# Altium footprint library myLIB.PcbLib: 150 footprints (part 10 of 10)
Each footprint in its own frame and in the unit in brackets; x right, y up, seen from the top. Pads: shape width x height; smd on the part's side, far side on the other; paste and mask are expansions set on the pad; w line width, h text height; cw(c..) or ccw(c..) is an arc to the next point about the centre after c.
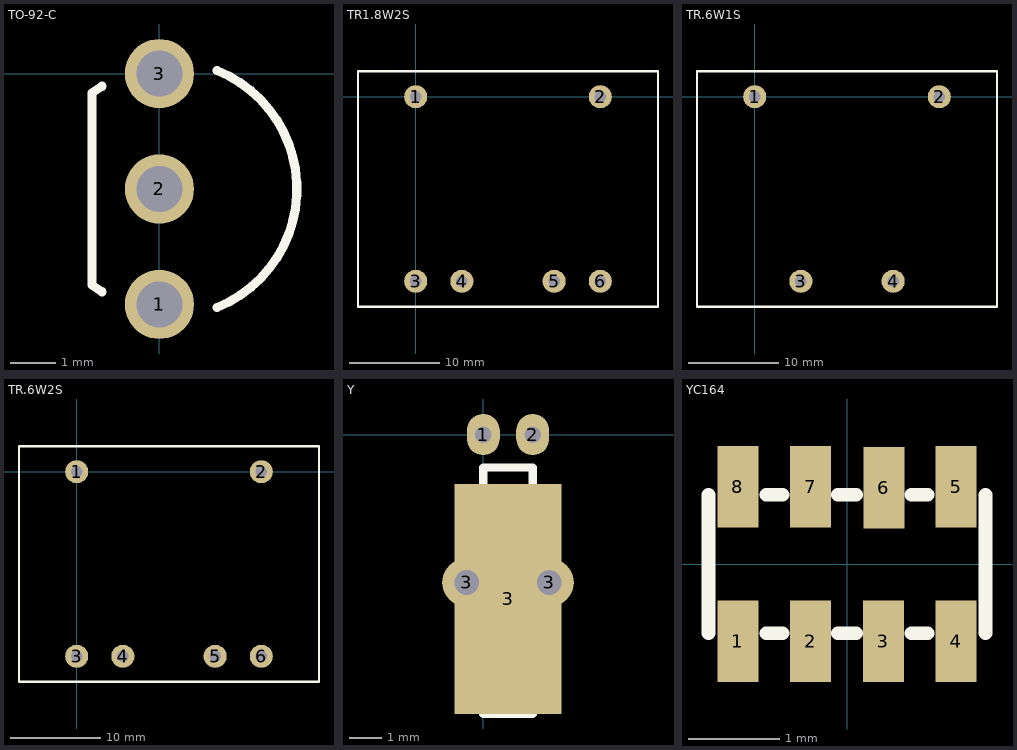
[diagram p9: the footprints below, top view; thin cyan lines are the x and y axes]

## TO-92-C [mil]
pads (3):
  round 60 hole 40: 1(0,-200) 2(0,-100) 3(0,0)
TopOverlay:
  lines w7.87: -49.71,-189.08 -58.33,-183.33 -58.33,-16.67 -49.71,-10.92 ; 49.85,-202.76 ccw(c8.33,-100) 49.85,2.76

## TR1.8W2S [mil]
pads (6):
  round 100 hole 50: 1(0,0) 2(800,0) 3(0,-800) 4(200,-800) 5(600,-800) 6(800,-800)
TopOverlay:
  lines w10: -250,-910 1050,-910 1050,110 -250,110 -250,-910

## TR.6W1S [mil]
pads (4):
  round 100 hole 50: 1(0,0) 2(800,0) 3(200,-800) 4(600,-800)
TopOverlay:
  lines w10: -250,-910 -250,110 1050,110 1050,-910 -250,-910

## TR.6W2S [mil]
pads (6):
  round 100 hole 50: 1(0,0) 2(800,0) 3(0,-800) 4(200,-800) 5(600,-800) 6(800,-800)
TopOverlay:
  lines w10: -250,-910 -250,110 1050,110 1050,-910 -250,-910

## Y [mil]
pads (5):
  oval 40x50 hole 20: 1(0,0) 2(60,0)
  round 60 hole 30: 3(-20,-180) 3(80,-180)
  rect 130x280 smd: 3(30,-200)
TopOverlay:
  lines w10: 0,-340 60,-340 60,-40 0,-40 0,-340

## YC164 [mm] "YC164 Chip Resistor array"
height 0.015
pads (8):
  rect 0.45x0.9 smd: 1(-1.2,-0.85) 2(-0.4,-0.85) 3(0.4,-0.85) 4(1.2,-0.85) 5(1.2,0.85) 6(0.406,0.838) 7(-0.4,0.85) 8(-1.2,0.85)
TopOverlay:
  lines w0.152: -1.524,-0.762 -1.524,0.762 ; -0.889,-0.762 -0.711,-0.762 ; -0.889,0.762 -0.711,0.762 ; -0.102,-0.762 0.102,-0.762 ; -0.102,0.762 0.102,0.762 ; 0.711,-0.762 0.889,-0.762 ; 0.711,0.762 0.889,0.762 ; 1.524,-0.762 1.524,0.762